# EAGLE library part 104031-0811 (library 104031-0811)
microSD 1.10mm SMT push-pull memory card microSD 1.10mm SMT push-pull memory card Source: Datasheet <http://www.molex.com/webdocs/datasheets/pdf/en-us/1040310811_MEMORY_CARD_SOCKET.pdf>
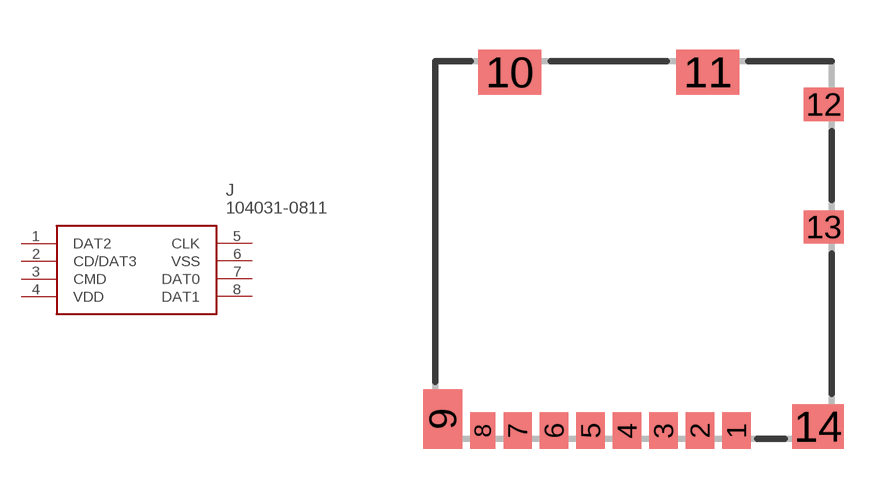
[diagram p0: symbol with the pads of 1040310811; footprint 1040310811]

Designator prefix J

## 104031-0811 (Description: microSD 1.10mm SMT push-pull memory card microSD 1.10mm SMT push-pull memory card; Height: mm; Manufacturer_Name: Molex; Manufacturer_Part_Number: 104031-0811; Mouser_Part_Number: 538-104031-0811; Mouser_Price-Stock: https://www.mouser.co.uk/ProductDetail/Molex/104031-0811?qs=udsGRKD4nA3Tvy7wqky%252BuA%3D%3D)  [1040310811]
1  DAT2
2  CD/DAT3
3  CMD
4  VDD
5  CLK
6  VSS
7  DAT0
8  DAT1

## Footprint 1040310811 (pad centres in mm)
1040310811
smd 0.85 x 1.1: 1 3.105,0.25; 2 2.005,0.25; 3 0.905,0.25; 4 -0.195,0.25; 5 -1.295,0.25; 6 -2.395,0.25; 7 -3.495,0.25
smd 0.75 x 1.1: 8 -4.545,0.25
smd 1.17 x 1.8: 9 -5.755,0.6
smd 1.9 x 1.35: 10 -3.73,11.075; 11 2.24,11.075
smd 1.2 x 1: 12 5.74,10.1; 13 5.74,6.4
smd 1.55 x 1.35: 14 5.565,0.375